# EAGLE library part SY7065 (library Deegou_IC)
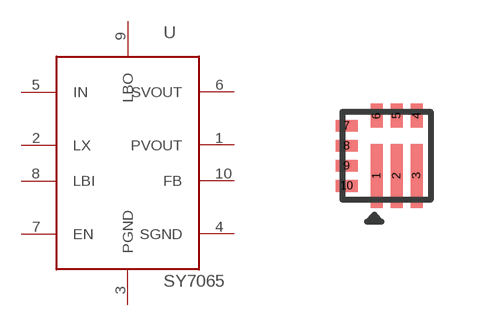
[diagram p25: symbol with the pads of QFN2X2-10L; footprint QFN2X2-10L]

Designator prefix U

## SY7065  [QFN2X2-10L]
1  PVOUT
2  LX
3  PGND
4  SGND
5  IN
6  SVOUT
7  EN
8  LBI
9  LBO
10  FB

## Footprint QFN2X2-10L (pad centres in mm)
smd 0.3 x 1.6: 1 -0.25,-0.5; 2 0.25,-0.5; 3 0.75,-0.5
smd 0.3 x 0.6: 4 0.75,1; 5 0.25,1; 6 -0.25,1
smd 0.55 x 0.3: 7 -1,0.75; 8 -1,0.25; 9 -1,-0.25; 10 -1,-0.75